# EAGLE library part EC2-5NU (library mb3_relays)
Low Signal Relay, DPDT, 5v coil voltage KEMET EC2-5NU: http://www.mouser.com/Search/ProductDetail.aspx?R=EC2-5NUvirtualkey58580000virtualkey80-EC2-5NU
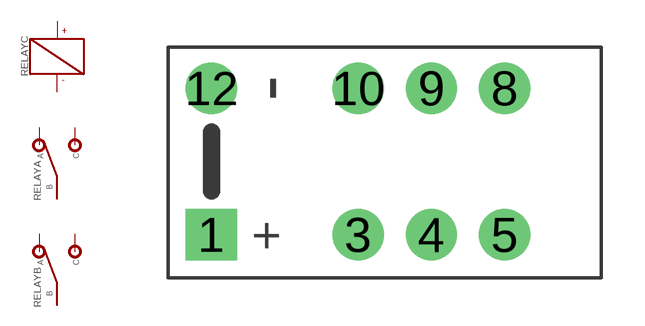
[diagram p0: symbol with the pads of 8-PIN; footprint 8-PIN]

Designator prefix RELAY; gates A=SPDT B=SPDT C=COIL

## EC2-5NU  [8-PIN]
1  C:+
3  A:A  pas
4  A:B  pas
5  A:C  pas
8  B:C  pas
9  B:B  pas
10  B:A  pas
12  C:-

## Footprint 8-PIN (pad centres in mm)
drill 1 pad 1.778 square: 1 0,0
drill 1 pad 1.778: 3 5.08,0; 4 7.62,0; 5 10.16,0; 8 10.16,5.08; 9 7.62,5.08; 10 5.08,5.08; 12 0,5.08